# Altium schematic symbol library X322516MRB4SI.Schlib: 1 symbol
Pins are listed as number, name and electrical type; pins without a type are passive.

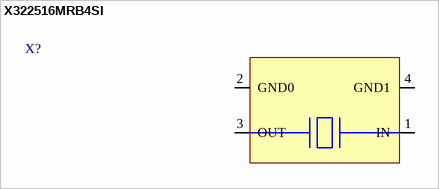
[diagram p0: symbol X322516MRB4SI]

## X322516MRB4SI
designator X?
Oscillator
pins: 1 IN, 2 GND0, 3 OUT, 4 GND1